# EAGLE library part PF08103B (library micro-hitachi)
PF08103B (Nokia Gain Stage)
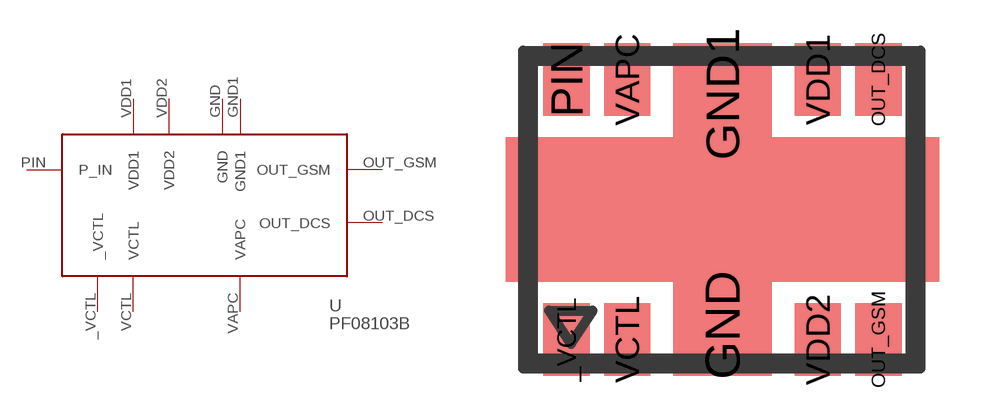
[diagram p2: symbol with the pads of RF0; footprint RF0]

Designator prefix -

## PF08103B  [RF0]
_VCTL  _VCTL
GND  GND
GND1  GND1
OUT_DCS  OUT_DCS
OUT_GSM  OUT_GSM
PIN  P_IN
VAPC  VAPC
VCTL  VCTL
VDD1  VDD1
VDD2  VDD2

## Footprint RF0 (pad centres in mm)
smd 1.6 x 2.5: _VCTL 1.6,1; OUT_DCS 12.4,10; OUT_GSM 12.4,1; PIN 1.6,10; VAPC 3.7,10; VCTL 3.7,1; VDD1 10.3,10; VDD2 10.3,1
smd 3.4 x 3.5: GND 7,1.5; GND1 7,9.5